# EAGLE library part POLOLU_FUEL_GAUGE (library Pololu-FuelGauge)
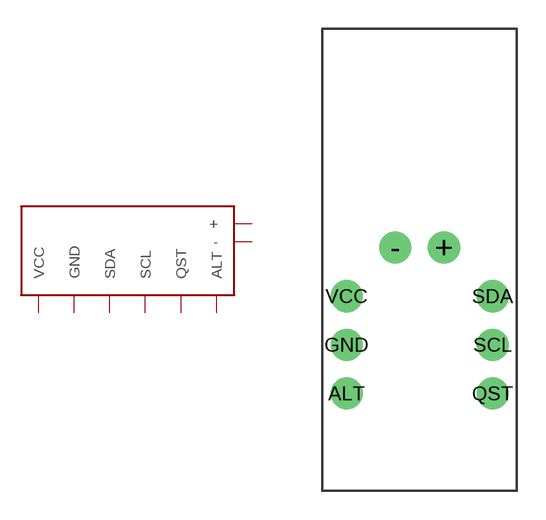
[diagram p0: symbol with the pads of BREAKBOARD; footprint BREAKBOARD]

Designator prefix -

## POLOLU_FUEL_GAUGEBREAKBOARD  [BREAKBOARD]
+  +
-  -
ALT  ALT
GND  GND
QST  QST
SCL  SCL
SDA  SDA
VCC  VCC

## Footprint BREAKBOARD (pad centres in mm)
drill 0.9 pad 1.676: + 1.27,8.89; - -1.27,8.89; ALT -3.81,1.27; GND -3.81,3.81; QST 3.81,1.27; SCL 3.81,3.81; SDA 3.81,6.35; VCC -3.81,6.35